# Altium footprint library Sensor.PcbLib: 4 footprints
Each footprint in its own frame and in the unit in brackets; x right, y up, seen from the top. Pads: shape width x height; smd on the part's side, far side on the other; paste and mask are expansions set on the pad; w line width, h text height; cw(c..) or ccw(c..) is an arc to the next point about the centre after c.
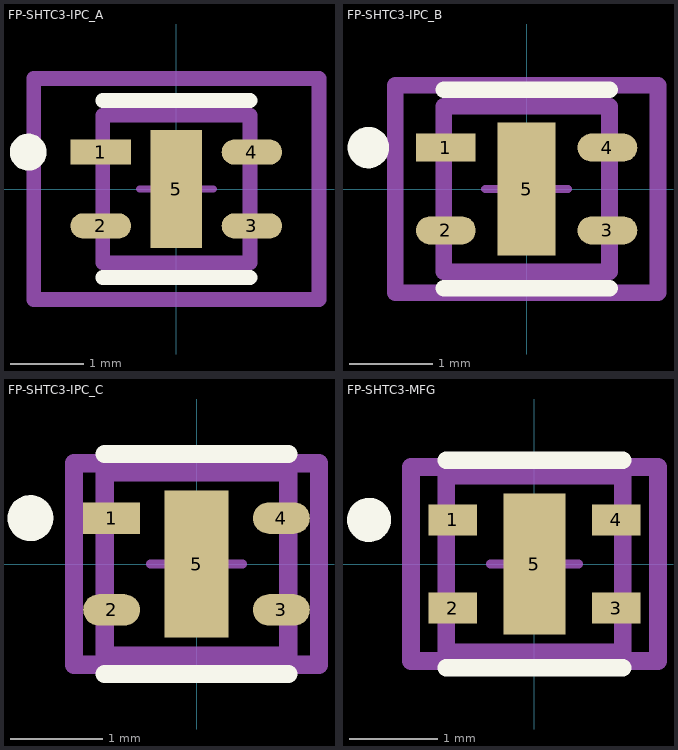
[diagram p0: the footprints below, top view; thin cyan lines are the x and y axes]

## FP-SHTC3-IPC_A [mm]
pads (5):
  rect 0.821x0.341 smd paste+0 mask+0: 1(-1.025,0.5)
  rrect100% 0.821x0.341 smd paste+0 mask+0: 2(-1.025,-0.5) 3(1.025,-0.5) 4(1.025,0.5)
  rect 0.7x1.6 smd paste-1000 mask+0: 5(0,0)
Top Overlay:
  circle w0.25: c-2.01,0.5 r0.125
  lines w0.2: -1,-1.2 1,-1.2 ; -1,1.2 1,1.2
Top Paste:
  rectangle: -0.178,-0.628 0.178,0.628
Mechanical 5:
  lines w0.2: -1.935,-1.5 -1.935,1.5 1.935,1.5 1.935,-1.5 -1.935,-1.5
  text ".Designator" at 0,-0.001 h1
Mechanical 13:
  lines w0.2: -1,-1 -1,1 1,1 1,-1 -1,-1
Mechanical 15:
  lines w0.2: -1.935,-1.5 -1.935,1.5 1.935,1.5 1.935,-1.5 -1.935,-1.5
Mechanical 16:
  lines w0.1: -0.5,0 0.5,0 ; 0,-0.5 0,0.5
3D body "IC_Sensirion_SHTC3_eec.STEP": height 0.25, standoff 0, extent -1.935,-1.5 1.935,1.5

## FP-SHTC3-IPC_B [mm]
pads (5):
  rect 0.721x0.341 smd paste+0 mask+0: 1(-0.975,0.5)
  rrect100% 0.721x0.341 smd paste+0 mask+0: 2(-0.975,-0.5) 3(0.975,-0.5) 4(0.975,0.5)
  rect 0.7x1.6 smd paste-1000 mask+0: 5(0,0)
Top Overlay:
  circle w0.25: c-1.91,0.5 r0.125
  lines w0.2: -1,-1.2 1,-1.2 ; -1,1.2 1,1.2
Top Paste:
  rectangle: -0.178,-0.628 0.178,0.628
Mechanical 5:
  lines w0.2: -1.585,-1.25 -1.585,1.25 1.585,1.25 1.585,-1.25 -1.585,-1.25
  text ".Designator" at 0,-0.001 h1
Mechanical 13:
  lines w0.2: -1,-1 -1,1 1,1 1,-1 -1,-1
Mechanical 15:
  lines w0.2: -1.585,-1.25 -1.585,1.25 1.585,1.25 1.585,-1.25 -1.585,-1.25
Mechanical 16:
  lines w0.1: -0.5,0 0.5,0 ; 0,-0.5 0,0.5
3D body "IC_Sensirion_SHTC3_eec.STEP": height 0.25, standoff 0, extent -1.585,-1.25 1.585,1.25

## FP-SHTC3-IPC_C [mm]
pads (5):
  rect 0.621x0.341 smd paste+0 mask+0: 1(-0.925,0.5)
  rrect100% 0.621x0.341 smd paste+0 mask+0: 2(-0.925,-0.5) 3(0.925,-0.5) 4(0.925,0.5)
  rect 0.7x1.6 smd paste-1000 mask+0: 5(0,0)
Top Overlay:
  circle w0.25: c-1.81,0.5 r0.125
  lines w0.2: -1,-1.2 1,-1.2 ; -1,1.2 1,1.2
Top Paste:
  rectangle: -0.178,-0.628 0.178,0.628
Mechanical 5:
  lines w0.2: -1.335,-1.1 1.335,-1.1 1.335,1.1 -1.335,1.1 -1.335,-1.1
  text ".Designator" at 0,-0.001 h1
Mechanical 13:
  lines w0.2: -1,-1 1,-1 1,1 -1,1 -1,-1
Mechanical 15:
  lines w0.2: -1.335,-1.1 1.335,-1.1 1.335,1.1 -1.335,1.1 -1.335,-1.1
Mechanical 16:
  lines w0.1: -0.5,0 0.5,0 ; 0,-0.5 0,0.5
3D body "IC_Sensirion_SHTC3_eec.STEP": height 0.25, standoff 0, extent -1.335,-1.1 1.335,1.1

## FP-SHTC3-MFG [mm]
pads (5):
  rect 0.55x0.35 smd paste-1000 mask-1000: 1(-0.925,0.5) 2(-0.925,-0.5) 3(0.925,-0.5) 4(0.925,0.5)
  rect 0.7x1.6 smd paste-1000 mask+0: 5(0,0)
Top Overlay:
  circle w0.25: c-1.875,0.5 r0.125
  lines w0.2: -1,-1.175 1,-1.175 ; -1,1.175 1,1.175
Top Paste:
  rectangle: -0.25,-0.7 0.25,0.7
  rectangle: -1.3,0.325 -0.75,0.675
  rectangle: -1.3,-0.675 -0.75,-0.325
  rectangle: 0.75,-0.675 1.3,-0.325
  rectangle: 0.75,0.325 1.3,0.675
Top Solder:
  rectangle: 0.65,0.325 1.3,0.675
  rectangle: 0.65,-0.675 1.3,-0.325
  rectangle: -1.3,-0.675 -0.65,-0.325
  rectangle: -1.3,0.325 -0.65,0.675
Mechanical 5:
  lines w0.2: -1.4,-1.1 1.4,-1.1 1.4,1.1 -1.4,1.1 -1.4,-1.1
  text ".Designator" at 0,0.188 h1
Mechanical 13:
  lines w0.2: -1,-1 1,-1 1,1 -1,1 -1,-1
Mechanical 15:
  lines w0.2: -1.4,-1.1 1.4,-1.1 1.4,1.1 -1.4,1.1 -1.4,-1.1
Mechanical 16:
  lines w0.1: -0.5,0 0.5,0 ; 0,-0.5 0,0.5
3D body "IC_Sensirion_SHTC3_eec.STEP": height 0.25, standoff 0, extent -1.4,-1.1 1.4,1.1